# Altium footprint library Fuse.PcbLib: 1 footprints
Each footprint in its own frame and in the unit in brackets; x right, y up, seen from the top. Pads: shape width x height; smd on the part's side, far side on the other; paste and mask are expansions set on the pad; w line width, h text height; cw(c..) or ccw(c..) is an arc to the next point about the centre after c.
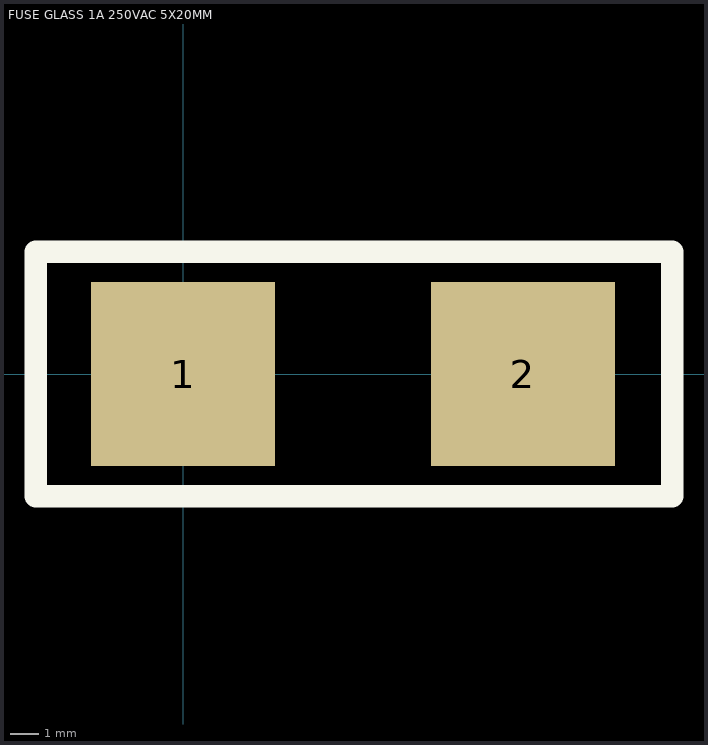
[diagram p0: the footprint, top view; thin cyan lines are the x and y axes]

## FUSE GLASS 1A 250VAC 5X20MM [mm]
pads (2):
  rect 6.5x6.5 smd mask+0.102: 1(0,0) 2(12,0)
Top Overlay:
  lines w0.8: -5.207,-4.318 -5.207,4.318 17.272,4.318 17.272,-4.318 -5.207,-4.318
3D body "User Library-Fuse Small 1A.step": height 5.05, standoff -0.05, extent -3.881,-2.55 15.819,2.55